# Altium footprint library SO-8-SST.PcbLib: 1 footprints
Each footprint in its own frame and in the unit in brackets; x right, y up, seen from the top. Pads: shape width x height; smd on the part's side, far side on the other; paste and mask are expansions set on the pad; w line width, h text height; cw(c..) or ccw(c..) is an arc to the next point about the centre after c.
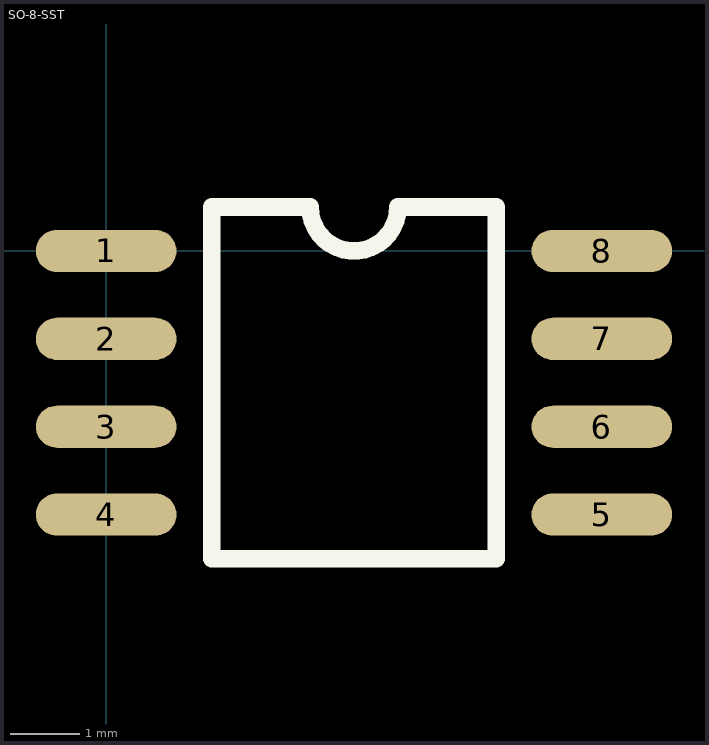
[diagram p0: the footprint, top view; thin cyan lines are the x and y axes]

## SO-8-SST [mil]
pads (8):
  oval 80x24 smd: 1(0,0) 2(0,-50) 3(0,-100) 4(0,-150) 5(282,-150) 6(282,-100) 7(282,-50) 8(282,0)
TopOverlay:
  lines w10: 91,-175 191,-175 ; 137.71,-175 60,-175 60,25 91,25 116,25 ccw(c141,25) 166,25 191,25 222,25 222,-175 170.96,-175
Mechanical4:
  text ".062" at 31,0 h1
3D body: height 170.47, standoff 85.04, extent 52.66,-9.45 72.58,10.51
3D body: height 39.37, standoff 0, extent 251.78,-9.45 271.66,9.45
3D body: height 39.37, standoff 0, extent 251.78,-59.45 271.66,-40.55
3D body: height 39.37, standoff 0, extent 251.78,-109.45 271.66,-90.55
3D body: height 39.37, standoff 0, extent 251.78,-159.45 271.66,-140.55
3D body: height 39.37, standoff 0, extent 15.75,-159.44 35.63,-140.55
3D body: height 39.37, standoff 0, extent 15.75,-109.44 35.63,-90.55
3D body: height 39.37, standoff 0, extent 15.75,-59.44 35.63,-40.55
3D body: height 39.37, standoff 0, extent 15.75,-9.44 35.63,9.45
3D body: height 85.04, standoff 1.97, extent 35.63,-183.07 251.77,33.07
3D body: height 3.94, standoff 0, extent -15.74,-9.44 15.75,9.45
3D body: height 3.94, standoff 0, extent -15.74,-59.44 15.75,-40.55
3D body: height 3.94, standoff 0, extent -15.74,-109.44 15.75,-90.55
3D body: height 3.94, standoff 0, extent -15.68,-159.34 15.81,-140.44
3D body: height 3.94, standoff 0, extent 271.71,-159.35 303.21,-140.45
3D body: height 3.94, standoff 0, extent 271.65,-109.45 303.15,-90.55
3D body: height 3.94, standoff 0, extent 271.65,-59.45 303.15,-40.55
3D body: height 3.94, standoff 0, extent 271.65,-9.45 303.15,9.45